# Altium integrated library 7-188275-6.IntLib: 1 symbol
Pins are listed as number, name and electrical type; pins without a type are passive.

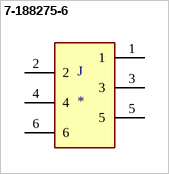
[diagram p0: symbol 7-188275-6]

## 7-188275-6
designator J
Micro-Match Series 2.54mm 6 Way 2 Row Straight PCB Socket Smnt Female-On-Board; MP: 7-188275-6; MF: TE Connectivity; Package: None; Availability: Unavailable; SnapEDA_Link: https://www.snapeda.com/parts/7-188275-6/TE%20Connectivity%20AMP%20Connectors/view-part/2549964/?ref=snap; Price: None; Value: *; TE_purchase_URL: https://www.te.com/usa-en/product-7-188275-6.html?te_bu=Cor&te_type=disp&te_campaign=seda_glo_cor-seda-global-disp-prtnr-fy19-seda-model-bom-cta_sma-317_1&elqCampaignId=32493
footprint TE_7-188275-6
pins: 1, 2, 3, 4, 5, 6